# Altium footprint library CapPol_Al_EEE-0JA331XP.PcbLib: 1 footprints
Each footprint in its own frame and in the unit in brackets; x right, y up, seen from the top. Pads: shape width x height; smd on the part's side, far side on the other; paste and mask are expansions set on the pad; w line width, h text height; cw(c..) or ccw(c..) is an arc to the next point about the centre after c.
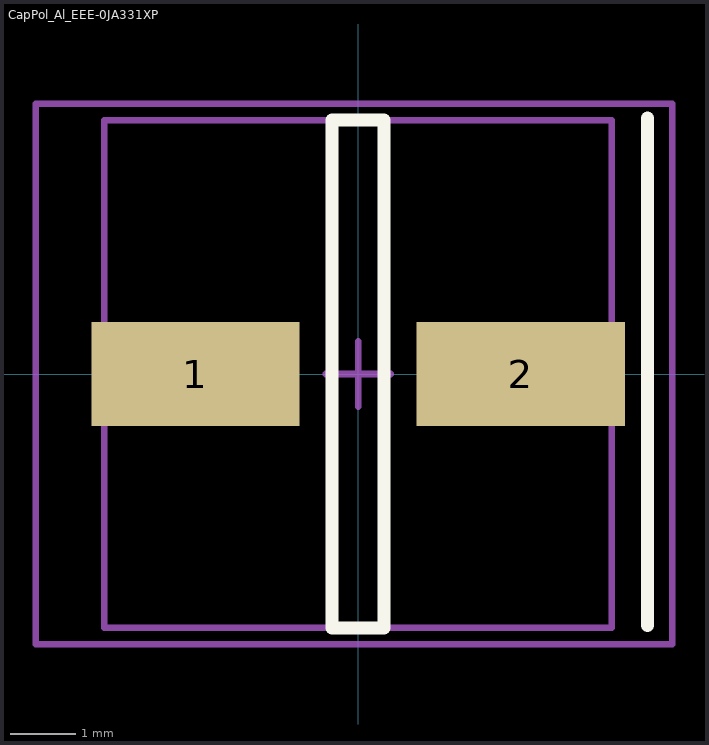
[diagram p0: the footprint, top view; thin cyan lines are the x and y axes]

## CapPol_Al_EEE-0JA331XP [mm]
height 5.5
pads (2):
  rect 3.2x1.6 smd: 1(-2.5,0) 2(2.5,0)
Top Overlay:
  lines w0.2: 4.445,-3.863 4.445,3.937 ; -0.4,-3.9 -0.4,3.9 0.4,3.9 0.4,-3.9 -0.4,-3.9
Mechanical 13:
  lines w0.1: -3.9,-3.9 -3.9,3.9 3.9,3.9 3.9,-3.9 -3.9,-3.9
Mechanical 15:
  lines w0.1: -0.5,0 0.5,0 ; 0,-0.5 0,0.5 ; -4.953,-4.15 -4.953,4.15 4.826,4.15 4.826,-4.15 -4.953,-4.15
3D body: height 5.5, standoff 0, extent -3.9,-3.9 3.9,3.9